# EAGLE library part XC95216-2 (library XILINX)
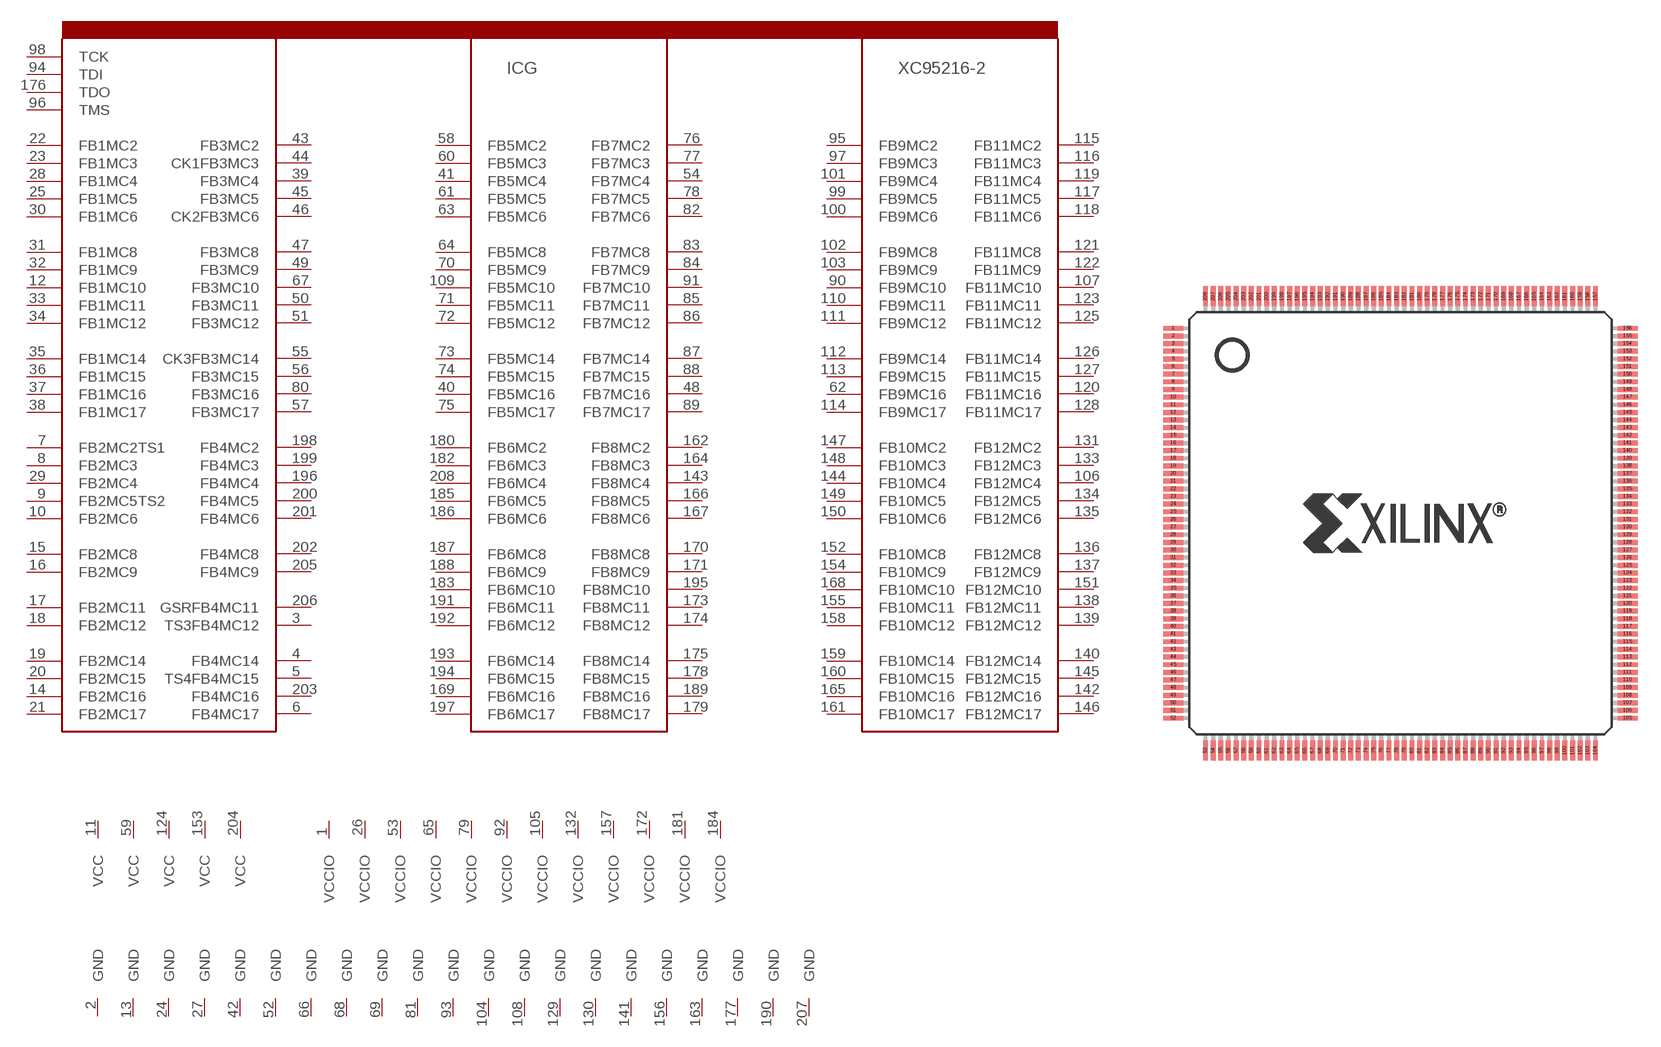
[diagram p5: symbol with the pads of PQ208; footprint PQ208]

Designator prefix IC; gates VCC1=VCCINT VCC2=VCCINT VCC3=VCCINT VCC4=VCCINT VCC5=VCCINT VCCIO1=VCCIO VCCIO2=VCCIO VCCIO3=VCCIO VCCIO4=VCCIO VCCIO5=VCCIO VCCIO6=VCCIO VCCIO7=VCCIO VCCIO8=VCCIO VCCIO9=VCCIO VCCIO10=VCCIO VCCIO11=VCCIO VCCIO12=VCCIO GND1=GND GND2=GND GND3=GND GND4=GND GND5=GND GND6=GND GND7=GND GND8=GND GND9=GND GND10=GND GND11=GND GND12=GND GND13=GND GND14=GND GND15=GND GND16=GND GND17=GND GND18=GND GND19=GND GND20=GND GND21=GND G=XC95216

## XC95216-2  [PQ208]
1  VCCIO1:VCCIO  pwr
2  GND1:GND  pwr
3  G:TS3FB4MC12
4  G:FB4MC14
5  G:TS4FB4MC15
6  G:FB4MC17
7  G:FB2MC2TS1
8  G:FB2MC3
9  G:FB2MC5TS2
10  G:FB2MC6
11  VCC1:VCC  pwr
12  G:FB1MC10
13  GND2:GND  pwr
14  G:FB2MC16
15  G:FB2MC8
16  G:FB2MC9
17  G:FB2MC11
18  G:FB2MC12
19  G:FB2MC14
20  G:FB2MC15
21  G:FB2MC17
22  G:FB1MC2
23  G:FB1MC3
24  GND3:GND  pwr
25  G:FB1MC5
26  VCCIO2:VCCIO  pwr
27  GND4:GND  pwr
28  G:FB1MC4
29  G:FB2MC4
30  G:FB1MC6
31  G:FB1MC8
32  G:FB1MC9
33  G:FB1MC11
34  G:FB1MC12
35  G:FB1MC14
36  G:FB1MC15
37  G:FB1MC16
38  G:FB1MC17
39  G:FB3MC4
40  G:FB5MC16
41  G:FB5MC4
42  GND5:GND  pwr
43  G:FB3MC2
44  G:CK1FB3MC3
45  G:FB3MC5
46  G:CK2FB3MC6
47  G:FB3MC8
48  G:FB7MC16
49  G:FB3MC9
50  G:FB3MC11
51  G:FB3MC12
52  GND6:GND  pwr
53  VCCIO3:VCCIO  pwr
54  G:FB7MC4
55  G:CK3FB3MC14
56  G:FB3MC15
57  G:FB3MC17
58  G:FB5MC2
59  VCC2:VCC  pwr
60  G:FB5MC3
61  G:FB5MC5
62  G:FB9MC16
63  G:FB5MC6
64  G:FB5MC8
65  VCCIO4:VCCIO  pwr
66  GND7:GND  pwr
67  G:FB3MC10
68  GND8:GND  pwr
69  GND9:GND  pwr
70  G:FB5MC9
71  G:FB5MC11
72  G:FB5MC12
73  G:FB5MC14
74  G:FB5MC15
75  G:FB5MC17
76  G:FB7MC2
77  G:FB7MC3
78  G:FB7MC5
79  VCCIO5:VCCIO  pwr
80  G:FB3MC16
81  GND10:GND  pwr
82  G:FB7MC6
83  G:FB7MC8
84  G:FB7MC9
85  G:FB7MC11
86  G:FB7MC12
87  G:FB7MC14
88  G:FB7MC15
89  G:FB7MC17
90  G:FB9MC10
91  G:FB7MC10
92  VCCIO6:VCCIO  pwr
93  GND11:GND  pwr
94  G:TDI  in
95  G:FB9MC2
96  G:TMS  in
97  G:FB9MC3
98  G:TCK  in
99  G:FB9MC5
100  G:FB9MC6
101  G:FB9MC4
102  G:FB9MC8
103  G:FB9MC9
104  GND12:GND  pwr
105  VCCIO7:VCCIO  pwr
106  G:FB12MC4
107  G:FB11MC10
108  GND13:GND  pwr
109  G:FB5MC10
110  G:FB9MC11
111  G:FB9MC12
112  G:FB9MC14
113  G:FB9MC15
114  G:FB9MC17
115  G:FB11MC2
116  G:FB11MC3
117  G:FB11MC5
118  G:FB11MC6
119  G:FB11MC4
120  G:FB11MC16
121  G:FB11MC8
122  G:FB11MC9
123  G:FB11MC11
124  VCC3:VCC  pwr
125  G:FB11MC12
126  G:FB11MC14
127  G:FB11MC15
128  G:FB11MC17
129  GND14:GND  pwr
130  GND15:GND  pwr
131  G:FB12MC2
132  VCCIO8:VCCIO  pwr
133  G:FB12MC3
134  G:FB12MC5
135  G:FB12MC6
136  G:FB12MC8
137  G:FB12MC9
138  G:FB12MC11
139  G:FB12MC12
140  G:FB12MC14
141  GND16:GND  pwr
142  G:FB12MC16
143  G:FB8MC4
144  G:FB10MC4
145  G:FB12MC15
146  G:FB12MC17
147  G:FB10MC2
148  G:FB10MC3
149  G:FB10MC5
150  G:FB10MC6
151  G:FB12MC10
152  G:FB10MC8
153  VCC4:VCC  pwr
154  G:FB10MC9
155  G:FB10MC11
156  GND17:GND  pwr
157  VCCIO9:VCCIO  pwr
158  G:FB10MC12
159  G:FB10MC14
160  G:FB10MC15
161  G:FB10MC17
162  G:FB8MC2
163  GND18:GND  pwr
164  G:FB8MC3
165  G:FB10MC16
166  G:FB8MC5
167  G:FB8MC6
168  G:FB10MC10
169  G:FB6MC16
170  G:FB8MC8
171  G:FB8MC9
172  VCCIO10:VCCIO  pwr
173  G:FB8MC11
174  G:FB8MC12
175  G:FB8MC14
176  G:TDO  in
177  GND19:GND  pwr
178  G:FB8MC15
179  G:FB8MC17
180  G:FB6MC2
181  VCCIO11:VCCIO  pwr
182  G:FB6MC3
183  G:FB6MC10
184  VCCIO12:VCCIO  pwr
185  G:FB6MC5
186  G:FB6MC6
187  G:FB6MC8
188  G:FB6MC9
189  G:FB8MC16
190  GND20:GND  pwr
191  G:FB6MC11
192  G:FB6MC12
193  G:FB6MC14
194  G:FB6MC15
195  G:FB8MC10
196  G:FB4MC4
197  G:FB6MC17
198  G:FB4MC2
199  G:FB4MC3
200  G:FB4MC5
201  G:FB4MC6
202  G:FB4MC8
203  G:FB4MC16
204  VCC5:VCC  pwr
205  G:FB4MC9
206  G:GSRFB4MC11
207  GND21:GND  pwr
208  G:FB6MC4

## Footprint PQ208 (pad centres in mm)
smd 1.3 x 0.32: 1 -14.85,12.75; 2 -14.85,12.25; 3 -14.85,11.75; 4 -14.85,11.25; 5 -14.85,10.75; 6 -14.85,10.25; 7 -14.85,9.75; 8 -14.85,9.25; 9 -14.85,8.75; 10 -14.85,8.25; 11 -14.85,7.75; 12 -14.85,7.25; 13 -14.85,6.75; 14 -14.85,6.25; 15 -14.85,5.75; 16 -14.85,5.25; 17 -14.85,4.75; 18 -14.85,4.25; 19 -14.85,3.75; 20 -14.85,3.25; 21 -14.85,2.75; 22 -14.85,2.25; 23 -14.85,1.75; 24 -14.85,1.25; 25 -14.85,0.75; 26 -14.85,0.25; 27 -14.85,-0.25; 28 -14.85,-0.75; 29 -14.85,-1.25; 30 -14.85,-1.75; 31 -14.85,-2.25; 32 -14.85,-2.75; 33 -14.85,-3.25; 34 -14.85,-3.75; 35 -14.85,-4.25; 36 -14.85,-4.75; 37 -14.85,-5.25; 38 -14.85,-5.75; 39 -14.85,-6.25; 40 -14.85,-6.75; 41 -14.85,-7.25; 42 -14.85,-7.75; 43 -14.85,-8.25; 44 -14.85,-8.75; 45 -14.85,-9.25; 46 -14.85,-9.75; 47 -14.85,-10.25; 48 -14.85,-10.75; 49 -14.85,-11.25; 50 -14.85,-11.75; 51 -14.85,-12.25; 52 -14.85,-12.75; 105 14.85,-12.75; 106 14.85,-12.25; 107 14.85,-11.75; 108 14.85,-11.25; 109 14.85,-10.75; 110 14.85,-10.25; 111 14.85,-9.75; 112 14.85,-9.25; 113 14.85,-8.75; 114 14.85,-8.25; 115 14.85,-7.75; 116 14.85,-7.25; 117 14.85,-6.75; 118 14.85,-6.25; 119 14.85,-5.75; 120 14.85,-5.25; 121 14.85,-4.75; 122 14.85,-4.25; 123 14.85,-3.75; 124 14.85,-3.25; 125 14.85,-2.75; 126 14.85,-2.25; 127 14.85,-1.75; 128 14.85,-1.25; 129 14.85,-0.75; 130 14.85,-0.25; 131 14.85,0.25; 132 14.85,0.75; 133 14.85,1.25; 134 14.85,1.75; 135 14.85,2.25; 136 14.85,2.75; 137 14.85,3.25; 138 14.85,3.75; 139 14.85,4.25; 140 14.85,4.75; 141 14.85,5.25; 142 14.85,5.75; 143 14.85,6.25; 144 14.85,6.75; 145 14.85,7.25; 146 14.85,7.75; 147 14.85,8.25; 148 14.85,8.75; 149 14.85,9.25; 150 14.85,9.75; 151 14.85,10.25; 152 14.85,10.75; 153 14.85,11.25; 154 14.85,11.75; 155 14.85,12.25; 156 14.85,12.75
smd 0.32 x 1.3: 53 -12.75,-14.85; 54 -12.25,-14.85; 55 -11.75,-14.85; 56 -11.25,-14.85; 57 -10.75,-14.85; 58 -10.25,-14.85; 59 -9.75,-14.85; 60 -9.25,-14.85; 61 -8.75,-14.85; 62 -8.25,-14.85; 63 -7.75,-14.85; 64 -7.25,-14.85; 65 -6.75,-14.85; 66 -6.25,-14.85; 67 -5.75,-14.85; 68 -5.25,-14.85; 69 -4.75,-14.85; 70 -4.25,-14.85; 71 -3.75,-14.85; 72 -3.25,-14.85; 73 -2.75,-14.85; 74 -2.25,-14.85; 75 -1.75,-14.85; 76 -1.25,-14.85; 77 -0.75,-14.85; 78 -0.25,-14.85; 79 0.25,-14.85; 80 0.75,-14.85; 81 1.25,-14.85; 82 1.75,-14.85; 83 2.25,-14.85; 84 2.75,-14.85; 85 3.25,-14.85; 86 3.75,-14.85; 87 4.25,-14.85; 88 4.75,-14.85; 89 5.25,-14.85; 90 5.75,-14.85; 91 6.25,-14.85; 92 6.75,-14.85; 93 7.25,-14.85; 94 7.75,-14.85; 95 8.25,-14.85; 96 8.75,-14.85; 97 9.25,-14.85; 98 9.75,-14.85; 99 10.25,-14.85; 100 10.75,-14.85; 101 11.25,-14.85; 102 11.75,-14.85; 103 12.25,-14.85; 104 12.75,-14.85; 157 12.75,14.85; 158 12.25,14.85; 159 11.75,14.85; 160 11.25,14.85; 161 10.75,14.85; 162 10.25,14.85; 163 9.75,14.85; 164 9.25,14.85; 165 8.75,14.85; 166 8.25,14.85; 167 7.75,14.85; 168 7.25,14.85; 169 6.75,14.85; 170 6.25,14.85; 171 5.75,14.85; 172 5.25,14.85; 173 4.75,14.85; 174 4.25,14.85; 175 3.75,14.85; 176 3.25,14.85; 177 2.75,14.85; 178 2.25,14.85; 179 1.75,14.85; 180 1.25,14.85; 181 0.75,14.85; 182 0.25,14.85; 183 -0.25,14.85; 184 -0.75,14.85; 185 -1.25,14.85; 186 -1.75,14.85; 187 -2.25,14.85; 188 -2.75,14.85; 189 -3.25,14.85; 190 -3.75,14.85; 191 -4.25,14.85; 192 -4.75,14.85; 193 -5.25,14.85; 194 -5.75,14.85; 195 -6.25,14.85; 196 -6.75,14.85; 197 -7.25,14.85; 198 -7.75,14.85; 199 -8.25,14.85; 200 -8.75,14.85; 201 -9.25,14.85; 202 -9.75,14.85; 203 -10.25,14.85; 204 -10.75,14.85; 205 -11.25,14.85; 206 -11.75,14.85; 207 -12.25,14.85; 208 -12.75,14.85